# Altium schematic symbol library Battery_management.schlib: 1 symbol
Pins are listed as number, name and electrical type; pins without a type are passive.

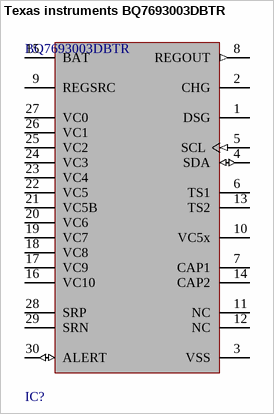
[diagram p0: symbol Texas instruments BQ7693003DBTR]

## Texas instruments BQ7693003DBTR
designator IC?, comment BQ7693003DBTR
Power Supply Support Circuit, Adjustable, 1 Channel, PDSO30; Manufacturer: Texas Instruments; Max Supply Voltage: 25V; Nominal Supply Current: 40-130uA; Number Of Outputs: 2; Number Of Cells: 10; Standoff Height: 0.05mm; Min Supply Voltage: 6V; Package Body Material: Plastic; Adjustable Threshold: Yes; Number of Channels: 1; Octopart: https://octopart.com/bq7693003dbtr-texas+instruments-34472212; Digikey Description: IC BATT MGMT LI-ION AFE 30TSSOP; Ipc Land Pattern Name: SOP50P635X120-30; Mouser Description: 6 to 10-Series Cell Li-Ion and Li-Phosphate Battery Monitor (bq76940 Family) 30-TSSOP -40 to 85; Package: DBT0030A; Manufacturer Part Number: BQ7693003DBTR; Device Class L1: Integrated Circuits (ICs); Temperature Range High: +85°C; RoHS: TRUE; Category: IC; Temperature: -40°C to +85°C; Automotive: No; Device Class L3: Battery Management; ComponentLink2Description: Datasheet; Device Class L2: Power Management ICs; ComponentLink2URL: http://www.ti.com/lit/ds/symlink/bq76930.pdf; Height: 1.2mm; Temperature Range Low: -40°C; Lead Free: Yes; Supplier: Mouser; Supplier Part Number: 595-BQ7693003DBTR; Stock: 4010; Pricing: 1=3,18, 10=2,75, 50=2,75, 100=2,54, 1000=2,15, 10000=1,96 (USD); Case/Package: TSSOP; Pins: 30; Package Shape: Rectangular; Terminal Finish: Nickel; Min Operating Temperature: -40°C; Max Operating Temperature: 85°C; JESD-609 Code: e4; Throw Configuration: POWER SUPPLY SUPPORT CIRCUIT; Moisture Sensitivity Level: 2; Channels: 1; Package Style: SMALL OUTLINE, THIN PROFILE, SHRINK PITCHMeter; Peak Reflow Temperature (Cel): 260°C; Surface Mount: Yes; Terminal Form: Gull Wing; Terminal Position: DUAL; Length: 7.8mm; Width: 4.4mm; Height - Seated (Max): 1.2mm; Terminal Pitch: 0.5mm; Reach SVHC Compliant: Yes; RoHS Compliant: Yes; Temperature Grade: INDUSTRIAL; ComponentLink1URL: https://www.ti.com:443/lit/ds/symlink/bq76920.pdf?src-supplier=IHS+Markit; ComponentLink1Description: https://www.ti.com:443/lit/ds/symlink/bq76920.pdf?src-supplier=IHS+Markit; ComponentLink3URL: http://www.ti.com/lit/gpn/bq76930?src-supplier=Mouser; ComponentLink3Description: http://www.ti.com/lit/gpn/bq76930?src-supplier=Mouser; ComponentLink4URL: http://www.ti.com/lit/ds/symlink/bq76930.pdf?src-supplier=Digikey; ComponentLink4Description: http://www.ti.com/lit/ds/symlink/bq76930.pdf?src-supplier=Digikey; ComponentLink5URL: http://www.ti.com/lit/pdf/slpt038?src-supplier=Digikey; ComponentLink5Description: http://www.ti.com/lit/pdf/slpt038?src-supplier=Digikey; ComponentLink6URL: http://www.ti.com/general/docs/lit/getliterature.tsp?genericPartNumber=BQ76920&&fileType=pdf&src-supplier=Avnet; ComponentLink6Description: http://www.ti.com/general/docs/lit/getliterature.tsp?genericPartNumber=BQ76920&&fileType=pdf&src-supplier=Avnet
footprint Texas Instruments TSSOP-30 7.8X4.4MM
pins: 1 DSG, 2 CHG, 3 VSS (power), 4 SDA (io), 5 SCL (in), 6 TS1, 7 CAP1, 8 REGOUT (out), 9 REGSRC (power), 10 VC5x, 11 NC, 12 NC, 13 TS2, 14 CAP2, 15 BAT (power), 16 VC10, 17 VC9, 18 VC8, 19 VC7, 20 VC6, 21 VC5B, 22 VC5, 23 VC4, 24 VC3, 25 VC2, 26 VC1, 27 VC0, 28 SRP, 29 SRN, 30 ALERT (io)